# EAGLE library part CON-LEOTRONICS_1365-10 (library mainboardv1.2)
DUAL ROW STRAIGHT HEADER 1364 SERIES. 1.27mm x 1.27mm. Without Fixing Post. SMT Source: http://www.leotronics.co.uk/Conexcon/Data%20Sheets/sec.%20A/1364ing.pdf
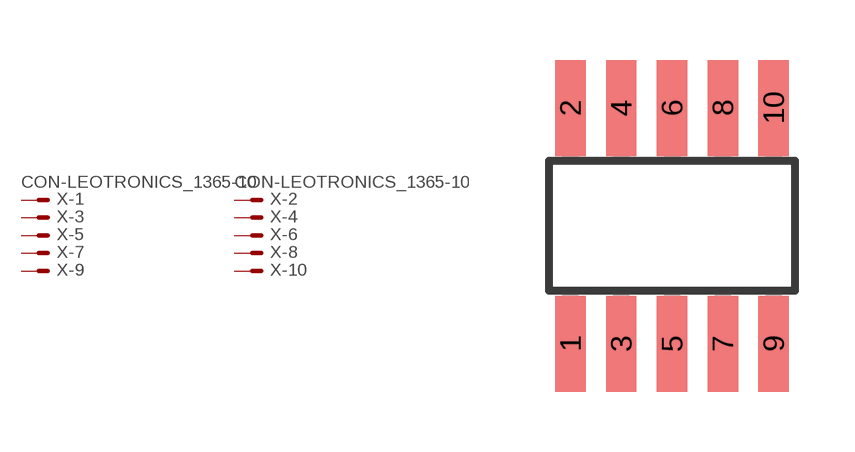
[diagram p2: symbol with the pads of CON-LEOTRONICS_1365-10; footprint CON-LEOTRONICS_1365-10]

Designator prefix X; gates -1=CON-LEOTRONICS_MVAL -2=CON-LEOTRONICS_MVAL -3=CON-LEOTRONICS_M -4=CON-LEOTRONICS_M -5=CON-LEOTRONICS_M -6=CON-LEOTRONICS_M -7=CON-LEOTRONICS_M -8=CON-LEOTRONICS_M -9=CON-LEOTRONICS_M -10=CON-LEOTRONICS_M

## CON-LEOTRONICS_1365-10 (OC_FARNELL: unknown; OC_NEWARK: unknown)  [CON-LEOTRONICS_1365-10]
1  -1:S  pas
2  -2:S  pas
3  -3:S  pas
4  -4:S  pas
5  -5:S  pas
6  -6:S  pas
7  -7:S  pas
8  -8:S  pas
9  -9:S  pas
10  -10:S  pas

## Footprint CON-LEOTRONICS_1365-10 (pad centres in mm)
DUAL ROW STRAIGHT HEADER 1364 SERIES. 1.27mm x 1.27mm. Without Fixing Post. SMT Source: http://www.leotronics.co.uk/Conexcon/Data%20Sheets/sec.%20A/1364ing.pdf
smd 0.76 x 2.4: 1 -2.54,-2.95; 2 -2.54,2.95; 3 -1.27,-2.95; 4 -1.27,2.95; 5 0,-2.95; 6 0,2.95; 7 1.27,-2.95; 8 1.27,2.95; 9 2.54,-2.95; 10 2.54,2.95